# Altium footprint library RF.PcbLib: 3 footprints
Each footprint in its own frame and in the unit in brackets; x right, y up, seen from the top. Pads: shape width x height; smd on the part's side, far side on the other; paste and mask are expansions set on the pad; w line width, h text height; cw(c..) or ccw(c..) is an arc to the next point about the centre after c.
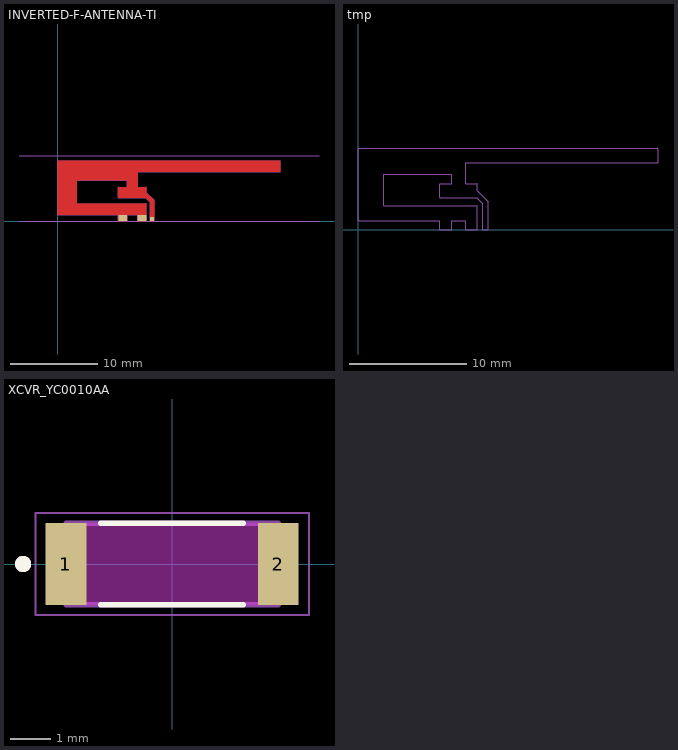
[diagram p0: the footprints below, top view; thin cyan lines are the x and y axes]

## INVERTED-F-ANTENNA-TI [mm]
pads (3):
  rect 1x0.74 smd: 1(7.48,0.37) 2(9.68,0.37)
  rect 0.46x0.46 smd: 3(10.86,0.23)
Top Layer:
  region: 6.98,0 6.98,0.74 0,0.74 0,6.91 25.58,6.91 25.58,5.7 9.18,5.7 9.18,3.9 10.18,3.9 10.18,3.289 11.09,2.382 11.09,0 10.63,0 10.63,2.187 10.126,2.69 6.98,2.69 6.98,3.9 7.98,3.9 7.98,4.7 2.18,4.7 2.18,2.03 10.18,2.03 10.18,0 9.18,0 9.18,0.74 7.98,0.74 7.98,0
Mechanical 1:
  lines w0.013: 0,0.79 ccw(c0.05,0.79) 0.05,0.74 6.98,0.74 6.98,0 7.98,0 7.98,0.74 9.18,0.74 9.18,0 10.18,0 10.18,1.98 ccw(c10.13,1.98) 10.13,2.03 2.18,2.03 2.18,4.7 7.98,4.7 7.98,3.9 7.03,3.9 ccw(c7.03,3.85) 6.98,3.85 6.98,2.74 ccw(c7.03,2.74) 7.03,2.69 10.127,2.69 10.63,2.187 10.63,0 11.09,0 11.09,2.378 10.18,3.288 10.18,3.85 ccw(c10.13,3.85) 10.13,3.9 9.18,3.9 9.18,5.7 25.53,5.7 ccw(c25.53,5.75) 25.58,5.75 25.58,6.86 ccw(c25.53,6.86) 25.53,6.91 0.05,6.91 ccw(c0.05,6.86) 0,6.86 0,0.79
Mechanical 15:
  lines w0.127: -4.42,0 30,0 ; -4.42,7.52 30,7.52

## tmp [mm]
Mechanical 1:
  lines w0.013: 0,0.79 ccw(c0.05,0.79) 0.05,0.74 6.98,0.74 6.98,0 7.98,0 7.98,0.74 9.18,0.74 9.18,0 10.18,0 10.18,1.98 ccw(c10.13,1.98) 10.13,2.03 2.18,2.03 2.18,4.7 7.98,4.7 7.98,3.9 7.03,3.9 ccw(c7.03,3.85) 6.98,3.85 6.98,2.74 ccw(c7.03,2.74) 7.03,2.69 10.127,2.69 10.63,2.187 10.63,0 11.09,0 11.09,2.378 10.18,3.288 10.18,3.85 ccw(c10.13,3.85) 10.13,3.9 9.18,3.9 9.18,5.7 25.53,5.7 ccw(c25.53,5.75) 25.58,5.75 25.58,6.86 ccw(c25.53,6.86) 25.53,6.91 0.05,6.91 ccw(c0.05,6.86) 0,6.86 0,0.79

## XCVR_YC0010AA [mm]
pads (2):
  rect 1x2 smd: 1(-2.6,0) 2(2.6,0)
Top Overlay:
  circle w0.2: c-3.65,0 r0.1
  lines w0.127: -1.75,-1 1.75,-1 ; -1.75,1 1.75,1
Keep-Out Layer:
  region: 2.1,-1 -2.1,-1 -2.1,1 2.1,1
  region: 2.1,-1 -2.1,-1 -2.1,1 2.1,1
Mechanical 13:
  circle w0.2: c-3.65,0 r0.1
  lines w0.127: -2.6,-1 -2.6,1 2.6,1 2.6,-1 -2.6,-1
Mechanical 15:
  lines w0.05: -3.35,-1.25 3.35,-1.25 3.35,1.25 -3.35,1.25 -3.35,-1.25
3D body "step_temp.STEP": height 1.3, standoff 0, extent -2.6,-1 2.6,1